# Altium schematic symbol library 68711814522.SchLib: 1 symbol
Pins are listed as number, name and electrical type; pins without a type are passive.

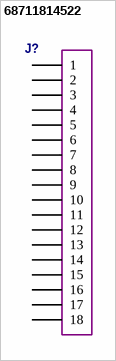
[diagram p0: symbol 68711814522]

## 68711814522
designator J?
WR-FPC SMT ZIF Horizontal Bottom Contact, pitch 0.5mm, 18p
pins: 1, 2, 3, 4, 5, 6, 7, 8, 9, 10, 11, 12, 13, 14, 15, 16, 17, 18